# Altium schematic symbol library Resistors.SchLib: 3 symbols
Pins are listed as number, name and electrical type; pins without a type are passive.

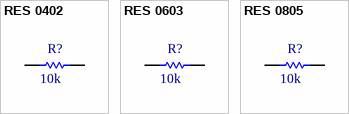
[diagram p0: symbols RES 0402 to RES 0805]

## RES 0402
designator R?, comment 10k
Value: 10k
simulation model SMD Resistor
footprint RES_0402 (Chip Resistor, 2-Leads, Body 1.0x0.5mm, IPC Medium Density)
pins: 1, 2

## RES 0603
designator R?, comment 10k
Value: 10k
footprint RES_0603
simulation model SMD Resistor
pins: 1, 2

## RES 0805
designator R?, comment 10k
Value: 10k
simulation model SMD Resistor
footprint RES_0805 (Resistor -  2 x 1.4 mm (LxDia))
pins: 1, 2